# Altium schematic symbol library Fuse.SchLib: 3 symbols
Pins are listed as number, name and electrical type; pins without a type are passive.

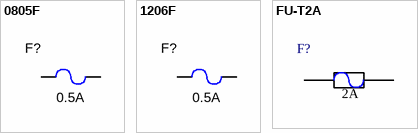
[diagram p0: symbols 0805F to FU-T2A]

## 0805F
designator F?, comment 0.5A
FU; Manufacturer: Littelfuse; Size: 0805; Mount type: SMT; Value: 0.5A
footprint 0805F
pins: 1, 2

## 1206F
designator F?, comment 0.5A
FU; Manufacturer: Littelfuse; Size: 1206; Mount type: SMT; Value: 0.5A
footprint 1206F F1
pins: 1, 2

## FU-T2A
designator F?  Max current: 2A
FU; Max voltage: 250V; Mount type: AI
footprint FU-392
pins: 1, 2